# Altium schematic symbol library Telemetria.SchLib: 7 symbols
Pins are listed as number, name and electrical type; pins without a type are passive.

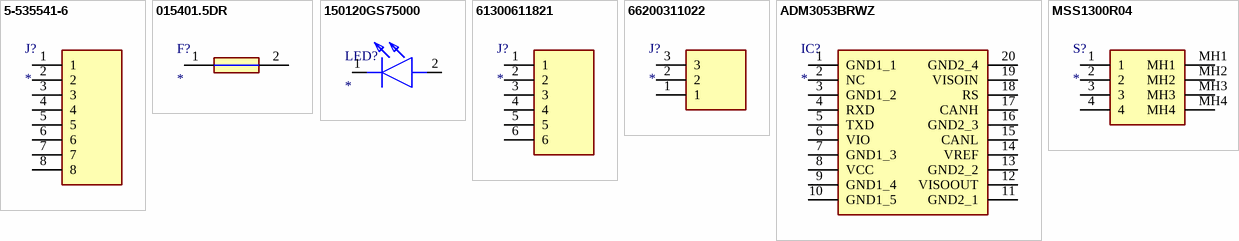
[diagram p0: symbols 5-535541-6 to MSS1300R04]

## 5-535541-6
designator J?
Connector; Manufacturer_Name: TE Connectivity; Manufacturer_Part_Number: 5-535541-6; Datasheet Link: https://componentsearchengine.com/Datasheets/1/5-535541-6.pdf; Height: 6.73mm; Mouser Part Number: 571-5-535541-6; Mouser Price/Stock: https://www.mouser.co.uk/ProductDetail/TE-Connectivity/5-535541-6?qs=xDp7PGUNC%252BuqVwKJJvkWQw%3D%3D; Arrow Part Number: 5-535541-6; Arrow Price/Stock: https://www.arrow.com/en/products/5-535541-6/te-connectivity?region=nac
footprint RHDR8W76P0X254_1X8_2032X356X673P
pins: 1, 2, 3, 4, 5, 6, 7, 8

## 015401.5DR
designator F?
Fuse; Manufacturer_Name: LITTELFUSE; Manufacturer_Part_Number: 015401.5DR; Datasheet Link: https://www.littelfuse.com/~/media/electronics/datasheets/fuses/littelfuse_fuse_154_154t_154l_154tl_datasheet.pdf.pdf; Height: 3.81mm; Mouser Part Number: 576-015401.5DR; Mouser Price/Stock: https://www.mouser.co.uk/ProductDetail/Littelfuse/0154015DR?qs=gu7KAQ731UQU9XmdVWeXsQ%3D%3D; Arrow Part Number: 015401.5DR; Arrow Price/Stock: https://www.arrow.com/en/products/015401.5dr/littelfuse?region=nac
footprint FUSM9750X381N
pins: 1, 2

## 150120GS75000
designator LED?
LED; Manufacturer_Name: Wurth Elektronik; Manufacturer_Part_Number: 150120GS75000; Height: 0.78mm; Mouser Part Number: 710-150120GS75000; Mouser Price/Stock: https://www.mouser.co.uk/ProductDetail/Wurth-Elektronik/150120GS75000?qs=LlUlMxKIyB3I3AMxrmBw4A%3D%3D
footprint LEDC3214X78N
pins: 1 K, 2 A

## 61300611821
designator J?
Connector; Manufacturer_Name: Wurth Elektronik; Manufacturer_Part_Number: 61300611821; Datasheet Link: https://www.we-online.de/katalog/datasheet/61300611821.pdf; Height: 8.65mm; Mouser Part Number: 710-61300611821; Mouser Price/Stock: https://www.mouser.co.uk/ProductDetail/Wurth-Elektronik/61300611821?qs=iLbezkQI%252BsgS21jF2eozhA%3D%3D
footprint RHDR6W97P0X254_1X6_1574X250X865P
pins: 1, 2, 3, 4, 5, 6

## 66200311022
designator J?
Connector; Manufacturer_Name: Wurth Elektronik; Manufacturer_Part_Number: 66200311022; Datasheet Link: https://docs.rs-online.com/3e1f/A700000007269589.pdf; Height: 5.72mm; Mouser Part Number: 710-66200311022; Mouser Price/Stock: https://www.mouser.co.uk/ProductDetail/Wurth-Elektronik/66200311022?qs=3RJ0PdSuLVkSi7ZZT4Z8xA%3D%3D
footprint 66200311022
pins: 1, 2, 3

## ADM3053BRWZ
designator IC?
Integrated Circuit; Manufacturer_Name: Analog Devices; Manufacturer_Part_Number: ADM3053BRWZ; Datasheet Link: https://componentsearchengine.com/Datasheets/2/ADM3053BRWZ.pdf; Height: 2.65mm; Mouser Part Number: 584-ADM3053BRWZ; Mouser Price/Stock: https://www.mouser.co.uk/ProductDetail/Analog-Devices/ADM3053BRWZ?qs=BpaRKvA4VqGZYG1hZ9cdqw%3D%3D; Arrow Part Number: ADM3053BRWZ; Arrow Price/Stock: https://www.arrow.com/en/products/adm3053brwz/analog-devices?region=nac
footprint SOIC127P1032X265-20N
pins: 1 GND1_1, 2 NC, 3 GND1_2, 4 RXD, 5 TXD, 6 VIO, 7 GND1_3, 8 VCC, 9 GND1_4, 10 GND1_5, 11 GND2_1, 12 VISOOUT, 13 GND2_2, 14 VREF, 15 CANL, 16 GND2_3, 17 CANH, 18 RS, 19 VISOIN, 20 GND2_4

## MSS1300R04
designator S?
Switch; Manufacturer_Name: TE Connectivity; Manufacturer_Part_Number: MSS1300R04; Datasheet Link: https://www.te.com/commerce/DocumentDelivery/DDEController?Action=showdoc&DocId=Customer+Drawing%7F1825260%7FA2%7Fpdf%7FEnglish%7FENG_CD_1825260_A2.pdf%7F1825260-1; Height: 11.3mm; Mouser Part Number: 506-MSS1300R04; Mouser Price/Stock: https://www.mouser.co.uk/ProductDetail/TE-Connectivity-PB/MSS1300R04?qs=Of7OaoM7rsFDfSerl70TPw%3D%3D
footprint MSS1300R04
pins: 1, 2, 3, 4, MH1, MH2, MH3, MH4